# Altium integrated library BUTTON.IntLib: 1 symbol
Pins are listed as number, name and electrical type; pins without a type are passive.

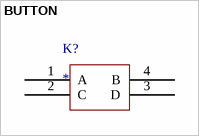
[diagram p0: symbol BUTTON]

## BUTTON
designator K?
footprint BUTTON
footprint DIP-12X12X7.3 (BUTTON)
pins: 1 A, 2 C, 3 D, 4 B